# Altium footprint library amplifier.PcbLib: 9 footprints
Each footprint in its own frame and in the unit in brackets; x right, y up, seen from the top. Pads: shape width x height; smd on the part's side, far side on the other; paste and mask are expansions set on the pad; w line width, h text height; cw(c..) or ccw(c..) is an arc to the next point about the centre after c.
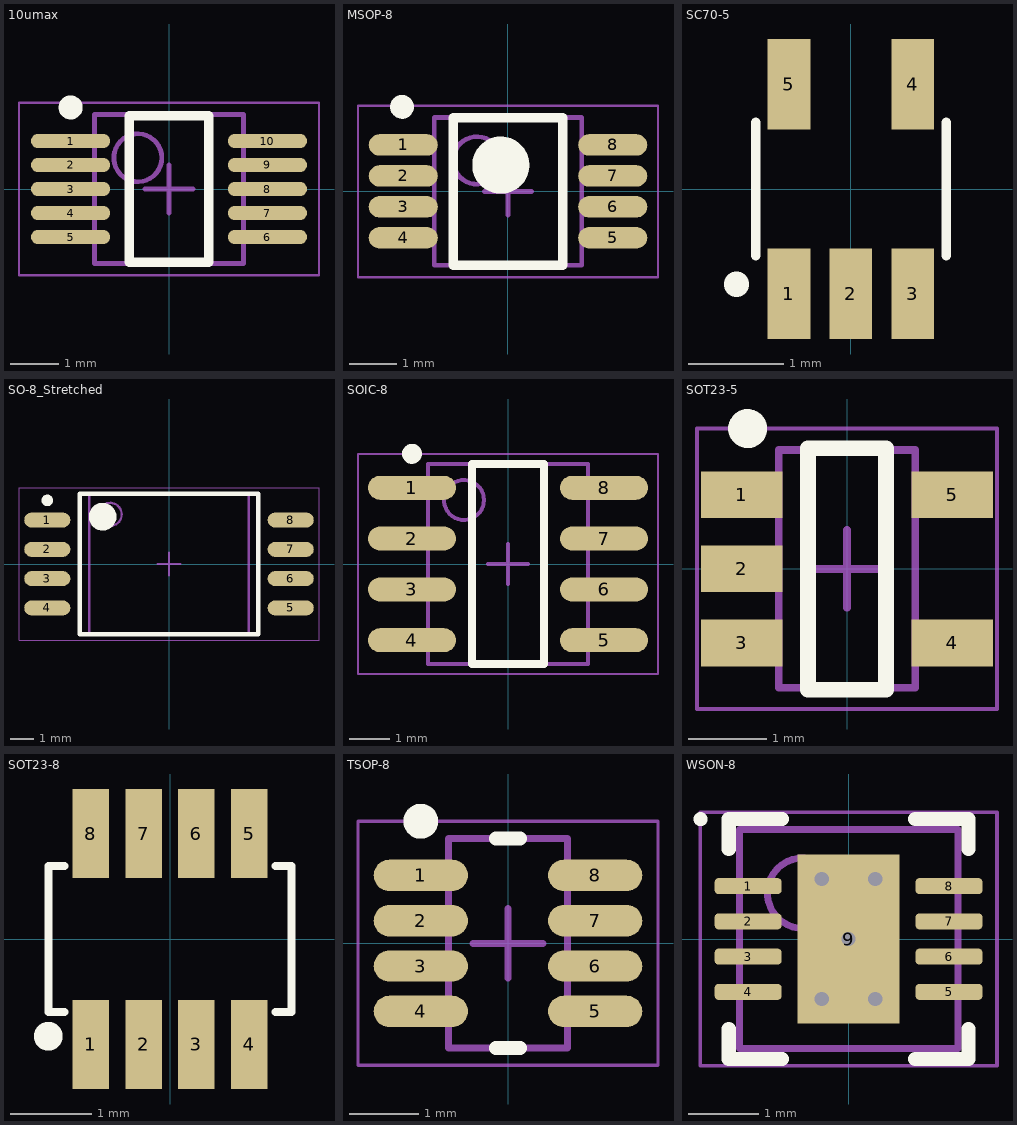
[diagram p0: the footprints below, top view; thin cyan lines are the x and y axes]

## 10umax [mm] "TSSOP, 10-Leads, Body 3.00x3.00mm, Pitch 0.50mm, IPC Medium Density"
height 1.1
pads (10):
  oval 1.65x0.3 smd: 1(-2.05,1) 2(-2.05,0.5) 3(-2.05,0) 4(-2.05,-0.5) 5(-2.05,-1) 6(2.05,-1) 7(2.05,-0.5) 8(2.05,0) 9(2.05,0.5) 10(2.05,1)
Top Overlay:
  circle w0.25: c-2.05,1.7 r0.125
  lines w0.2: -0.825,-1.525 0.825,-1.525 0.825,1.525 -0.825,1.525 -0.825,-1.525
Mechanical 13:
  circle w0.1: c-0.65,0.65 r0.5
  lines w0.1: -1.55,-1.55 1.55,-1.55 1.55,1.55 -1.55,1.55 -1.55,-1.55
Mechanical 15:
  lines w0.05: -3.125,-1.8 3.125,-1.8 3.125,1.8 -3.125,1.8 -3.125,-1.8
  lines w0.1: -0.5,0 0.5,0 ; 0,-0.5 0,0.5
3D body: height 1.1, standoff 0.15, extent -1.55,-1.55 1.55,1.55

## MSOP-8 [mm] "TSOP, 8-Leads, Body 3.00x3.00mm, Pitch 0.65mm, IPC Medium Density"
height 1.1
pads (8):
  oval 1.45x0.45 smd: 1(-2.2,0.975) 2(-2.2,0.325) 3(-2.2,-0.325) 4(-2.2,-0.975) 5(2.2,-0.975) 6(2.2,-0.325) 7(2.2,0.325) 8(2.2,0.975)
Top Overlay:
  circle w0.25: c-2.225,1.775 r0.125
  circle w0.6: c-0.15,0.55 r0.3
  lines w0.2: -1.15,-1.55 -1.15,1.55 1.15,1.55 1.15,-1.55 -1.15,-1.55
Mechanical 13:
  circle w0.1: c-0.65,0.65 r0.5
  lines w0.1: -1.55,-1.55 -1.55,1.55 1.55,1.55 1.55,-1.55 -1.55,-1.55
Mechanical 15:
  lines w0.05: -3.15,-1.8 -3.15,1.8 3.15,1.8 3.15,-1.8 -3.15,-1.8
  lines w0.1: -0.5,0 0.5,0 ; 0,-0.5 0,0.5
3D body: height 1.1, standoff 0.05, extent -1.55,-1.55 1.55,1.55

## SC70-5 [mm]
pads (5):
  rect 0.45x0.95 smd: 1(-0.65,-1.1) 2(0,-1.1) 3(0.65,-1.1) 4(0.65,1.1) 5(-0.65,1.1)
Top Overlay:
  circle w0.254: c-1.2,-1 r0.005
  lines w0.1: -1,-0.7 -1,0.7 ; 1,-0.7 1,0.7
3D body: height 1.1, standoff 0, extent -1,-0.7 1,0.7

## SO-8_Stretched [mm] "SOIC, 8-Leads, Body 5.84x6.80mm, Pitch 1.27mm, IPC Medium Density"
height 3.61
pads (8):
  oval 2x0.65 smd: 1(-5.275,1.905) 2(-5.275,0.635) 3(-5.275,-0.635) 4(-5.275,-1.905) 5(5.275,-1.905) 6(5.275,-0.635) 7(5.275,0.635) 8(5.275,1.905)
Top Overlay:
  circle w0.25: c-5.275,2.755 r0.125
  circle w0.6: c-2.875,2.05 r0.3
  lines w0.2: -3.875,-3.05 -3.875,3.05 3.875,3.05 3.875,-3.05 -3.875,-3.05
Mechanical 13:
  circle w0.1: c-2.55,2.15 r0.5
  lines w0.1: -3.45,-3.05 -3.45,3.05 3.45,3.05 3.45,-3.05 -3.45,-3.05
Mechanical 15:
  lines w0.05: -6.5,-3.3 -6.5,3.3 6.5,3.3 6.5,-3.3 -6.5,-3.3
  lines w0.1: -0.5,0 0.5,0 ; 0,-0.5 0,0.5
3D body: height 3.61, standoff 0.1, extent -3.45,-3.05 3.45,3.05

## SOIC-8 [mm] "SOIC, 8-Leads, Body 4.90x3.90mm, Pitch 1.27mm, IPC Medium Density"
height 1.75
pads (8):
  oval 2.2x0.6 smd: 1(-2.4,1.905) 2(-2.4,0.635) 3(-2.4,-0.635) 4(-2.4,-1.905) 5(2.4,-1.905) 6(2.4,-0.635) 7(2.4,0.635) 8(2.4,1.905)
Top Overlay:
  circle w0.25: c-2.4,2.755 r0.125
  lines w0.2: -0.9,-2.5 0.9,-2.5 0.9,2.5 -0.9,2.5 -0.9,-2.5
Mechanical 13:
  circle w0.1: c-1.1,1.6 r0.5
  lines w0.1: -2,-2.5 2,-2.5 2,2.5 -2,2.5 -2,-2.5
Mechanical 15:
  lines w0.05: -3.75,-2.75 3.75,-2.75 3.75,2.75 -3.75,2.75 -3.75,-2.75
  lines w0.1: -0.5,0 0.5,0 ; 0,-0.5 0,0.5
3D body: height 1.75, standoff 0.25, extent -2,-2.5 2,2.5

## SOT23-5 [mm] "SOT23, 5-Leads, Body 2.90x2.45mm, Pitch 0.95mm, IPC Medium Density"
height 1.45
pads (5):
  rect 1.05x0.6 smd: 1(-1.35,0.95) 2(-1.35,0) 3(-1.35,-0.95) 4(1.35,-0.95) 5(1.35,0.95)
Top Overlay:
  circle w0.25: c-1.275,1.8 r0.125
  lines w0.2: -0.5,-1.55 0.5,-1.55 0.5,1.55 -0.5,1.55 -0.5,-1.55
Mechanical 13:
  lines w0.1: -0.875,-1.525 -0.875,1.525 0.875,1.525 0.875,-1.525 -0.875,-1.525
Mechanical 15:
  lines w0.05: -1.925,-1.8 -1.925,1.8 1.925,1.8 1.925,-1.8 -1.925,-1.8
  lines w0.1: -0.5,0 0.5,0 ; 0,-0.5 0,0.5
3D body: height 1.45, standoff 0, extent -0.875,-1.525 0.875,1.525

## SOT23-8 [mm]
pads (8):
  rect 0.45x1.1 smd mask+0.05: 1(-0.975,-1.3) 2(-0.325,-1.3) 3(0.325,-1.3) 4(0.975,-1.3) 5(0.975,1.3) 6(0.325,1.3) 7(-0.325,1.3) 8(-0.975,1.3)
Top Overlay:
  circle w0.254: c-1.5,-1.2 r0.05
  lines w0.1: -1.3,-0.9 -1.5,-0.9 -1.5,0.9 -1.3,0.9 ; 1.3,-0.9 1.5,-0.9 1.5,0.9 1.3,0.9
3D body: height 1.45, standoff 0, extent -1.5,-0.9 1.5,0.9

## TSOP-8 [mm] "TSOP, 8-Leads, Body 2.90x1.60mm, Pitch 0.65mm, IPC Medium Density"
height 1.45
pads (8):
  oval 1.35x0.45 smd: 1(-1.25,0.975) 2(-1.25,0.325) 3(-1.25,-0.325) 4(-1.25,-0.975) 5(1.25,-0.975) 6(1.25,-0.325) 7(1.25,0.325) 8(1.25,0.975)
Top Overlay:
  circle w0.25: c-1.25,1.75 r0.125
  lines w0.2: -0.175,-1.5 0.175,-1.5 ; -0.175,1.5 0.175,1.5
Mechanical 13:
  lines w0.1: -0.85,-1.5 -0.85,1.5 0.85,1.5 0.85,-1.5 -0.85,-1.5
Mechanical 15:
  lines w0.05: -2.15,-1.75 -2.15,1.75 2.15,1.75 2.15,-1.75 -2.15,-1.75
  lines w0.1: -0.5,0 0.5,0 ; 0,-0.5 0,0.5
3D body: height 1.45, standoff 0.15, extent -0.85,-1.5 0.85,1.5

## WSON-8 [mm] "SON, 8-Leads, Body 3.00x3.00mm, Pitch 0.50mm, Thermal Pad 2.40x1.29mm, IPC Medium Density"
height 0.8
pads (9):
  rrect50% 0.95x0.23 smd: 1(-1.425,0.75) 2(-1.425,0.25) 3(-1.425,-0.25) 4(-1.425,-0.75) 5(1.425,-0.75) 6(1.425,-0.25) 7(1.425,0.25) 8(1.425,0.75)
  rect 1.45x2.4 smd: 9(0,0)
via 0.38,0.85 diameter 0.559 hole 0.203
via 0.38,-0.85 diameter 0.559 hole 0.203
via -0.38,-0.85 diameter 0.559 hole 0.203
via -0.38,0.85 diameter 0.559 hole 0.203
via 0,0 diameter 0.559 hole 0.203
Top Overlay:
  circle w0.1: c-2.1,1.7 r0.05
  lines w0.2: -1.7,-1.275 -1.7,-1.7 -0.945,-1.7 ; -1.7,1.275 -1.7,1.7 -0.945,1.7 ; 0.945,-1.7 1.7,-1.7 1.7,-1.275 ; 0.945,1.7 1.7,1.7 1.7,1.275
Mechanical 13:
  circle w0.1: c-0.65,0.65 r0.5
  lines w0.1: -1.55,-1.55 1.55,-1.55 1.55,1.55 -1.55,1.55 -1.55,-1.55
Mechanical 15:
  lines w0.05: -2.105,-1.8 2.105,-1.8 2.105,1.8 -2.105,1.8 -2.105,-1.8
  lines w0.1: -0.5,0 0.5,0 ; 0,-0.5 0,0.5
3D body: height 0.8, standoff 0.05, extent -1.55,-1.55 1.55,1.55